# EAGLE library part ESP03 (library ESP)
ESP03 Footprint
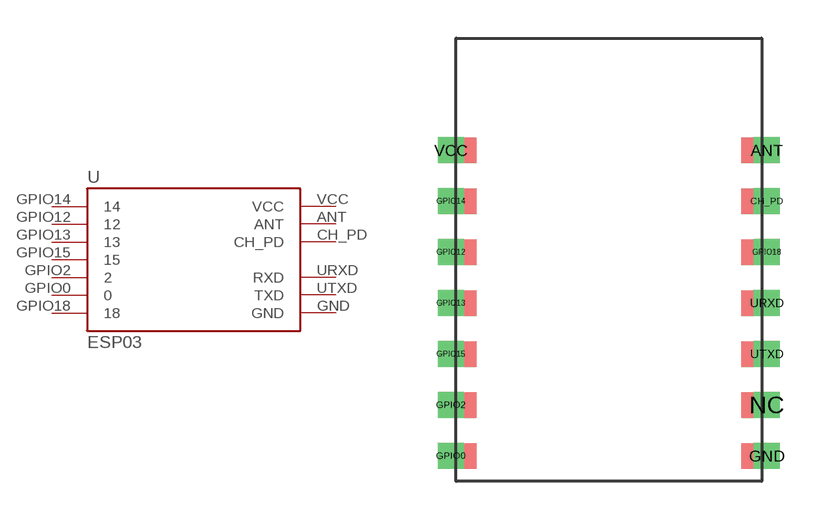
[diagram p1: symbol with the pads of ESP03; footprint ESP03]

Designator prefix U

## ESP03  [ESP03]
ANT  ANT
CH_PD  CH_PD  in
GND  GND  pwr
GPIO0  0
GPIO2  2
GPIO12  12
GPIO13  13
GPIO14  14
GPIO15  15
GPIO18  18
URXD  RXD  out
UTXD  TXD  in
VCC  VCC  pwr

## Footprint ESP03 (pad centres in mm)
drill 0.008 pad 1.016 square: ANT 12.2,-4.4; CH_PD 12.2,-6.4; GND 12.2,-16.4; GPIO0 -0.2,-16.4; GPIO2 -0.2,-14.4; GPIO12 -0.2,-8.4; GPIO13 -0.2,-10.4; GPIO14 -0.2,-6.4; GPIO15 -0.2,-12.4; GPIO18 12.2,-8.4; NC 12.2,-14.4; URXD 12.2,-10.4; UTXD 12.2,-12.4; VCC -0.2,-4.4